# Altium footprint library SleepTrackerPoCLib.PcbLib: 13 footprints
Each footprint in its own frame and in the unit in brackets; x right, y up, seen from the top. Pads: shape width x height; smd on the part's side, far side on the other; paste and mask are expansions set on the pad; w line width, h text height; cw(c..) or ccw(c..) is an arc to the next point about the centre after c.
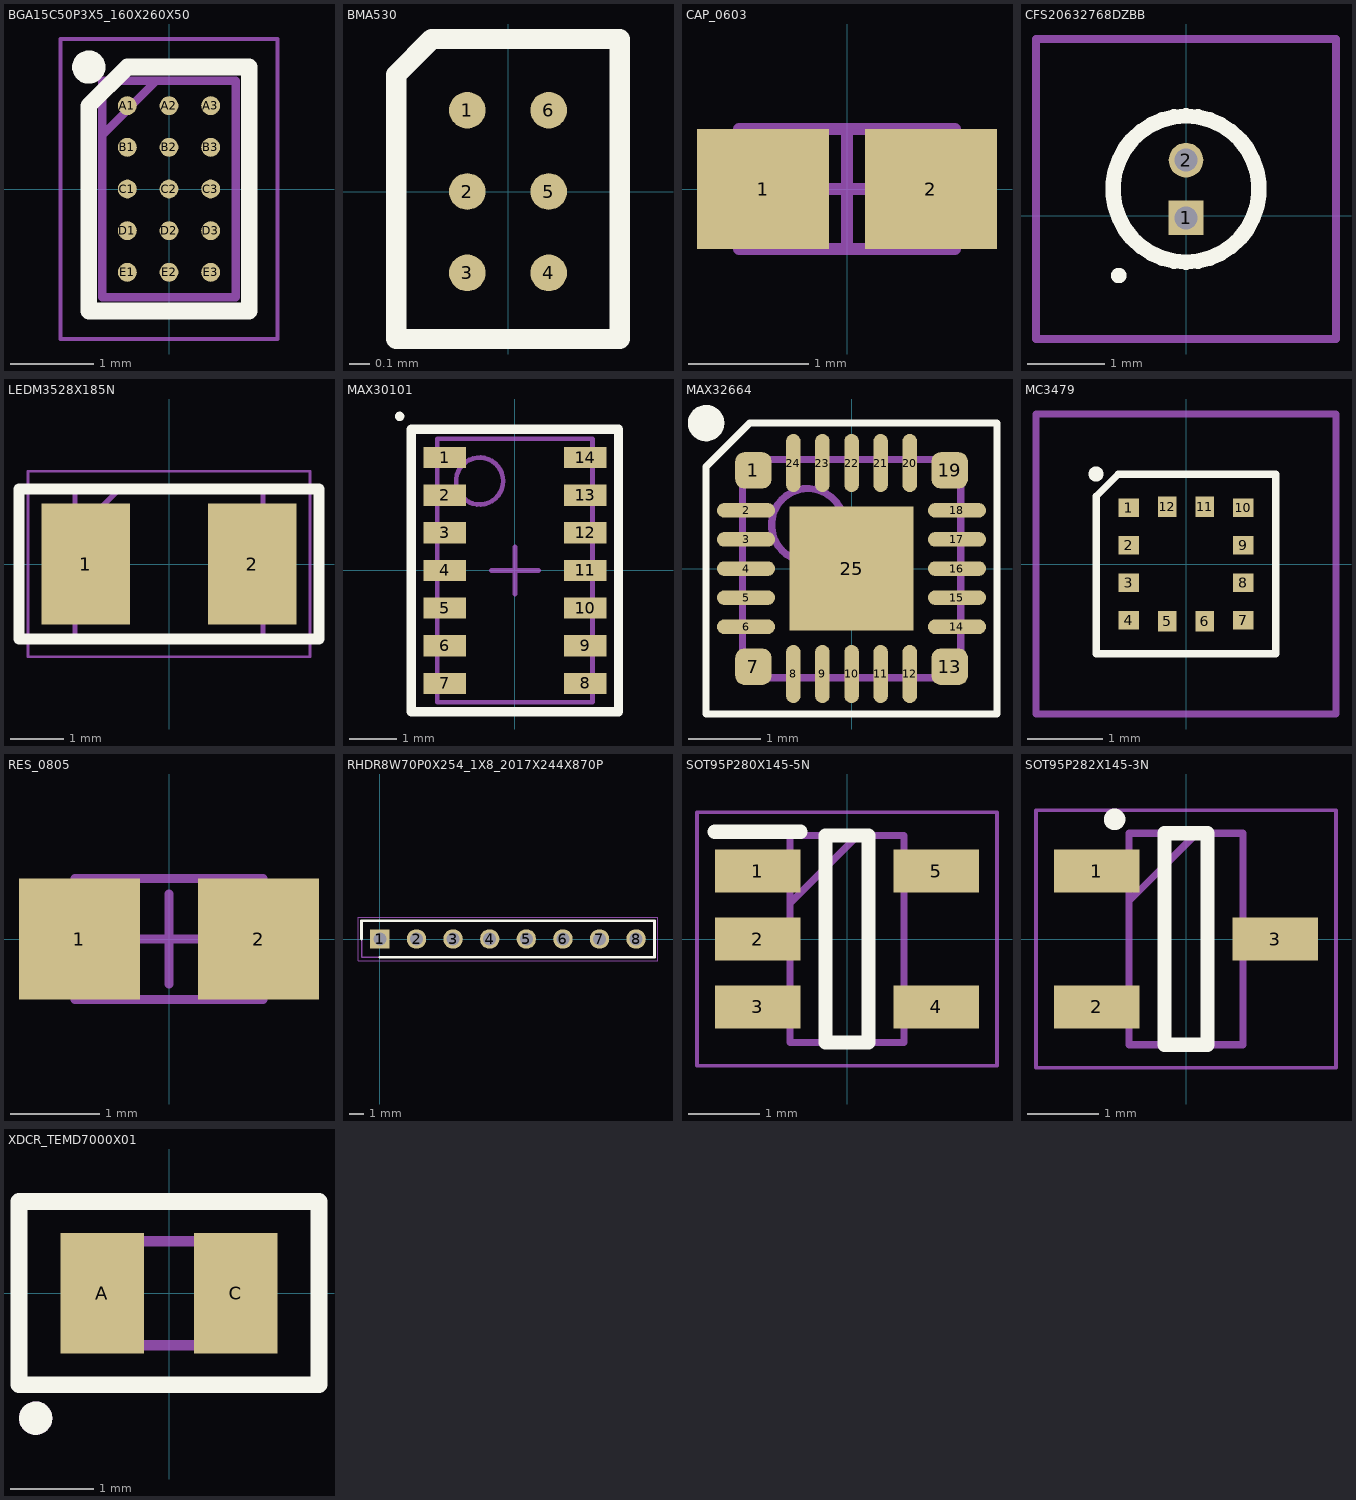
[diagram p0: the footprints below, top view; thin cyan lines are the x and y axes]

## BGA15C50P3X5_160X260X50 [mm]
pads (15):
  round 0.226 smd: A1(-0.5,1) A2(0,1) A3(0.5,1) B1(-0.5,0.5) B2(0,0.5) B3(0.5,0.5) C1(-0.5,0) C2(0,0) C3(0.5,0) D1(-0.5,-0.5) D2(0,-0.5) D3(0.5,-0.5) E1(-0.5,-1) E2(0,-1) E3(0.5,-1)
Top Overlay:
  circle w0.2: c-0.963,1.463 r0.1
  lines w0.2: -0.963,-1.463 -0.963,1 -0.5,1.463 0.963,1.463 0.963,-1.463 -0.963,-1.463
Mechanical 15:
  lines w0.1: -0.8,0.65 -0.15,1.3 ; -0.8,-1.3 -0.8,1.3 0.8,1.3 0.8,-1.3 -0.8,-1.3
Mechanical 20:
  lines w0.05: -1.3,-1.8 -1.3,1.8 1.3,1.8 1.3,-1.8 -1.3,-1.8
3D body "AFE4404YZPR.stp": height 0.5, standoff 0, extent -0.8,-1.3 0.8,1.3

## BMA530 [mm]
pads (6):
  round 0.18 smd mask+0.05: 1(-0.2,0.4) 2(-0.2,0) 3(-0.2,-0.4) 4(0.2,-0.4) 5(0.2,0) 6(0.2,0.4)
Top Overlay:
  lines w0.1: -0.55,-0.725 0.55,-0.725 0.55,0.75 -0.375,0.75 -0.55,0.575 -0.55,-0.725
3D body "BMA530.stp": height 0.69, standoff 0, extent -0.4,-0.6 0.4,0.6

## CAP_0603 [mm] "Chip Capacitor, 2-Leads, Body 1.60x0.80mm, IPC Medium Density"
height 1
pads (2):
  rect 1.1x1 smd: 1(-0.7,0) 2(0.7,0)
Top Assembly:
  lines w0.1: -0.9,-0.5 0.9,-0.5 0.9,0.5 -0.9,0.5 -0.9,-0.5
Mechanical 15:
  lines w0.1: -0.5,0 0.5,0 ; 0,-0.5 0,0.5
3D body "CAP_0603.step": height 1, standoff 0, extent -0.9,-0.5 0.9,0.5

## CFS20632768DZBB [mm]
pads (2):
  rect 0.45x0.45 hole 0.3: 1(0,-0.025)
  round 0.45 hole 0.3: 2(0,0.725)
Top Overlay:
  lines w0.1: -0.875,-0.825 ccw(c-0.875,-0.775) -0.875,-0.725 ccw(c-0.875,-0.775) -0.875,-0.825
  lines w0.2: 0,-0.6 cw(c0,0.35) 0,1.3 cw(c0,0.35) 0,-0.6
Mechanical 15:
  lines w0.1: 0,-0.6 cw(c0,0.35) 0,1.3 cw(c0,0.35) 0,-0.6
Mechanical 20:
  lines w0.1: -1.95,-1.6 -1.95,2.3 1.95,2.3 1.95,-1.6 -1.95,-1.6
3D body "CFS-20632768DZBB.stp": height 6.3, standoff -5, extent -0.943,-0.6 0.943,1.3

## LEDM3528X185N [mm]
pads (2):
  rect 1.65x2.25 smd: 1(-1.55,0) 2(1.55,0)
Top Overlay:
  lines w0.2: -2.794,-1.397 2.794,-1.397 2.794,1.397 -2.794,1.397 -2.794,-1.397
Mechanical 15:
  lines w0.1: -1.75,0.575 -0.925,1.4 ; -1.75,-1.4 1.75,-1.4 1.75,1.4 -1.75,1.4 -1.75,-1.4
Mechanical 20:
  lines w0.05: -2.625,-1.725 2.625,-1.725 2.625,1.725 -2.625,1.725 -2.625,-1.725
3D body "VSMB3940X01-GS08.step": height 1.67, standoff -0.15, extent -1.797,-1.4 1.781,1.4

## MAX30101 [mm] "SON, 14-Leads, Body 5.50x3.20mm, Pitch 0.80mm, IPC Medium Density"
height 1.55
pads (14):
  rect 0.9x0.45 smd: 1(-1.495,2.4) 2(-1.495,1.6) 3(-1.495,0.8) 4(-1.495,0) 5(-1.495,-0.8) 6(-1.495,-1.6) 7(-1.495,-2.4) 8(1.495,-2.4) 9(1.495,-1.6) 10(1.495,-0.8) 11(1.495,0) 12(1.495,0.8) 13(1.495,1.6) 14(1.495,2.4)
Top Overlay:
  circle w0.1: c-2.45,3.275 r0.05
  lines w0.2: -2.2,-3 1.65,-3 2.2,-3 2.2,3 1.65,3 -1.65,3 -2.2,3 -2.2,-3
Top Assembly:
  circle w0.1: c-0.75,1.9 r0.5
  lines w0.1: -1.65,-2.8 -1.65,2.8 1.65,2.8 1.65,-2.8 -1.65,-2.8
Mechanical 15:
  lines w0.05: -2.205,-3.05 -2.205,3.05 2.205,3.05 2.205,-3.05 -2.205,-3.05
  lines w0.1: -0.5,0 0.5,0 ; 0,-0.5 0,0.5
3D body "21-1048F_F143A51_MXM.step": height 1.65, standoff 0, extent -1.651,-2.794 1.651,2.794

## MAX32664 [mm] "QFN, 28-Leads, Body 3.00x3.00mm, Pitch 0.40mm, Thermal Pad 1.70x1.70mm, IPC Medium Density"
height 0.85
pads (25):
  rrect50% 0.5x0.5 smd mask+0.038: 1(-1.35,1.35) 7(-1.35,-1.35) 13(1.35,-1.35) 19(1.35,1.35)
  oval 0.8x0.2 smd mask+0.038: 2(-1.45,0.8) 3(-1.45,0.4) 4(-1.45,0) 5(-1.45,-0.4) 6(-1.45,-0.8) 14(1.45,-0.8) 15(1.45,-0.4) 16(1.45,0) 17(1.45,0.4) 18(1.45,0.8)
  oval 0.2x0.8 smd mask+0.038: 8(-0.8,-1.45) 9(-0.4,-1.45) 10(0,-1.45) 11(0.4,-1.45) 12(0.8,-1.45) 20(0.8,1.45) 21(0.4,1.45) 22(0,1.45) 23(-0.4,1.45) 24(-0.8,1.45)
  rect 1.7x1.7 smd mask+0.038: 25(0,0)
Top Overlay:
  circle w0.25: c-2,2 r0.125
  lines w0.1: -2,-2 2,-2 2,2 -1.4,2 -2,1.4 -2,-2
Top Assembly:
  circle w0.1: c-0.6,0.6 r0.5
  lines w0.1: -1.5,-1.5 1.5,-1.5 1.5,1.5 -1.5,1.5 -1.5,-1.5
Mechanical 15:
  lines w0.1: -0.5,0 0.5,0 ; 0,-0.5 0,0.5
3D body "MAXIM_90-100089.step": height 0.8, standoff 0, extent -1.55,-1.55 1.55,1.55

## MC3479 [mm]
pads (12):
  rect 0.275x0.25 smd: 1(-0.762,0.75) 2(-0.762,0.25) 3(-0.762,-0.25) 4(-0.762,-0.75) 7(0.763,-0.75) 8(0.763,-0.25) 9(0.763,0.25) 10(0.763,0.75)
  rect 0.25x0.275 smd: 5(-0.25,-0.763) 6(0.25,-0.763) 11(0.25,0.762) 12(-0.25,0.762)
Top Overlay:
  lines w0.1: -1.2,-1.2 1.2,-1.2 1.2,1.2 -0.9,1.2 -1.2,0.9 -1.2,-1.2 ; -1.2,1.15 ccw(c-1.2,1.2) -1.2,1.25 ccw(c-1.2,1.2) -1.2,1.15
Mechanical 20:
  lines w0.1: -2,-2 -2,2 2,2 2,-2 -2,-2
3D body "MC3479.stp": height 0.99, standoff 0, extent -1.003,-1.003 1.003,1.003

## RES_0805 [mm]
height 0.6
pads (2):
  rect 1.35x1.35 smd: 1(-1,0) 2(1,0)
Top Assembly:
  lines w0.1: -1.05,-0.675 1.05,-0.675 1.05,0.675 -1.05,0.675 -1.05,-0.675
Mechanical 15:
  lines w0.1: -0.5,0 0.5,0 ; 0,-0.5 0,0.5
3D body "RES_0805.step": height 0.6, standoff 0, extent -1.05,-0.675 1.05,0.675

## RHDR8W70P0X254_1X8_2017X244X870P [mm]
pads (8):
  rect 1.35x1.35 / inner round 1.35 / far side rect 1.35x1.35 hole 0.9: 1(0,0)
  round 1.35 hole 0.9: 2(2.54,0) 3(5.08,0) 4(7.62,0) 5(10.16,0) 6(12.7,0) 7(15.24,0) 8(17.78,0)
Top Overlay:
  lines w0.2: -1.27,0 -1.27,1.27 19.05,1.27 19.05,-1.27 0,-1.27
Mechanical 15:
  lines w0.1: -1.27,-1.27 -1.27,1.27 19.05,1.27 19.05,-1.27 -1.27,-1.27
Mechanical 20:
  lines w0.05: -1.52,-1.52 -1.52,1.52 19.3,1.52 19.3,-1.52 -1.52,-1.52
3D body "90147-1108.stp": height 8.51, standoff -2.89, extent -1.27,-1.27 19.05,1.27

## SOT95P280X145-5N [mm]
pads (5):
  rect 1.2x0.6 smd: 1(-1.25,0.95) 2(-1.25,0) 3(-1.25,-0.95) 4(1.25,-0.95) 5(1.25,0.95)
Top Overlay:
  lines w0.2: -1.85,1.5 -0.65,1.5 ; -0.3,-1.45 -0.3,1.45 0.3,1.45 0.3,-1.45 -0.3,-1.45
Mechanical 15:
  lines w0.1: -0.8,0.5 0.15,1.45 ; -0.8,-1.45 -0.8,1.45 0.8,1.45 0.8,-1.45 -0.8,-1.45
Mechanical 20:
  lines w0.05: -2.1,-1.775 -2.1,1.775 2.1,1.775 2.1,-1.775 -2.1,-1.775
3D body "TPS7A2050PDBVR.step": height 1.2, standoff 0, extent -1.4,-1.45 1.4,1.45

## SOT95P282X145-3N [mm]
pads (3):
  rect 1.2x0.6 smd: 1(-1.25,0.95) 2(-1.25,-0.95) 3(1.25,0)
Top Overlay:
  circle w0.25: c-1,1.675 r0.025
  lines w0.2: -0.3,-1.48 0.3,-1.48 0.3,1.48 -0.3,1.48 -0.3,-1.48
Mechanical 15:
  lines w0.1: -0.8,0.53 0.15,1.48 ; -0.8,-1.48 0.8,-1.48 0.8,1.48 -0.8,1.48 -0.8,-1.48
Mechanical 20:
  lines w0.05: -2.1,-1.8 2.1,-1.8 2.1,1.8 -2.1,1.8 -2.1,-1.8
3D body "AP2138N-3.3TRG1.stp": height 1.45, standoff 0, extent -1.412,-1.48 1.412,1.48

## XDCR_TEMD7000X01 [mm]
pads (2):
  rect 1x1.45 smd: A(-0.8,0) C(0.8,0)
Top Overlay:
  circle w0.2: c-1.6,-1.5 r0.1
  lines w0.2: -1.8,-1.1 1.8,-1.1 1.8,1.1 -1.8,1.1 -1.8,-1.1
Mechanical 13:
  circle w0.2: c-1.6,-1.5 r0.1
  lines w0.127: -1,-0.625 1,-0.625 1,0.625 -1,0.625 -1,-0.625
3D body "step_temp.STEP": height 0.85, standoff 0, extent -1,-0.625 1,0.625